# Altium schematic symbol library RF Detector.SchLib: 6 symbols
Pins are listed as number, name and electrical type; pins without a type are passive.

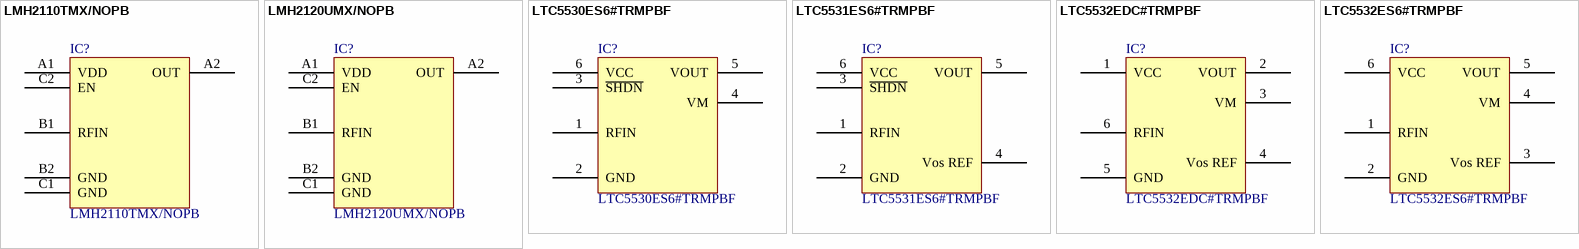
[diagram p0: symbols LMH2110TMX/NOPB to LTC5532ES6#TRMPBF]

## LMH2110TMX/NOPB
designator IC?
IC LOG DETECTOR 8GHZ 45DB 6MSMD; Manufacturer: Texas Instruments; Frequency: 50MHz ~ 8GHz; Input Range: -40dBm ~ 5dBm; Accuracy: 0.5dB; Voltage Supply: 2.7 V ~ 5 V; Part Number: LMH2110TMX/NOPB; PartId: 7867; Supplier 1: Digi-Key; Supplier Part Number 1: 296-41439-2-ND; ComponentLink1Description: Datasheet; ComponentLink1URL: http://www.ti.com/lit/ds/symlink/lmh2110.pdf; ComponentLink2Description: Digi-Key Listing; ComponentLink2URL: http://www.digikey.com/product-detail/en/LMH2110TMX%2FNOPB/296-41439-1-ND/5222781; Price: 0.9; Device Package: 6-WFBGA; Current Supply: -
footprint TI DSBGA-6 1.25x0.85mm
pins: A1 VDD, A2 OUT, B1 RFIN, B2 GND, C1 GND, C2 EN

## LMH2120UMX/NOPB
designator IC?
IC LIN DETECTOR 6GHZ 40BD SMD; Manufacturer: Texas Instruments; Frequency: 50MHz ~ 6GHz; Input Range: -35dBm ~ 5dBm; Accuracy: 0.5dB; Voltage Supply: 2.7 V ~ 5 V; Current Supply: 4.7mA; Part Number: LMH2120UMX/NOPB; PartId: 7896; Supplier 1: Digi-Key; Supplier Part Number 1: LMH2120UMX/NOPB-ND; ComponentLink1Description: Datasheet; ComponentLink1URL: http://www.ti.com/lit/ds/symlink/lmh2120.pdf; ComponentLink2Description: Digi-Key Listing; ComponentLink2URL: http://www.digikey.com/product-detail/en/LMH2120UMX%2FNOPB/LMH2120UMX%2FNOPB-ND/2506819; Price: 0.9; Device Package: 6-XFBGA
footprint TI XFBGA-6 1.2x0.8mm
pins: A1 VDD, A2 OUT, B1 RFIN, B2 GND, C1 GND, C2 EN

## LTC5530ES6#TRMPBF
designator IC?
IC RF PWR DETECTOR PREC TSOT23-6; Manufacturer: Linear Technology; Frequency: 300MHz ~ 7GHz; Input Range: -32dBm ~ 10dBm; Voltage Supply: 2.7 V ~ 6 V; Current Supply: 500uA; Part Number: LTC5530ES6#TRMPBF; PartId: 7898; Supplier 1: Digi-Key; Supplier Part Number 1: LTC5530ES6#TRMPBFTR-ND; ComponentLink1Description: Datasheet; ComponentLink1URL: http://www.linear.com/docs/1185; ComponentLink2Description: Digi-Key Listing; ComponentLink2URL: http://www.digikey.com/product-detail/en/LTC5530ES6%23TRMPBF/LTC5530ES6%23TRMPBFTR-ND/962320; Price: 1.61; Device Package: SOT-23-6 Thin, TSOT-23-6; Accuracy: -
footprint LT TSOT-23-6 S6 RFDET
pins: 1 RFIN, 2 GND, 3 ~{SHDN}, 4 VM, 5 VOUT, 6 VCC

## LTC5531ES6#TRMPBF
designator IC?
IC RF PWR DETECTOR PREC TSOT23-6; Manufacturer: Linear Technology; Frequency: 300MHz ~ 7GHz; Input Range: -32dBm ~ 10dBm; Voltage Supply: 2.7 V ~ 6 V; Current Supply: 500uA; Part Number: LTC5531ES6#TRMPBF; PartId: 7897; Supplier 1: Digi-Key; Supplier Part Number 1: LTC5531ES6#TRMPBFTR-ND; ComponentLink1Description: Datasheet; ComponentLink1URL: http://www.linear.com/docs/1482; ComponentLink2Description: Digi-Key Listing; ComponentLink2URL: http://www.digikey.com/product-detail/en/LTC5531ES6%23TRMPBF/LTC5531ES6%23TRMPBFTR-ND/962304; Price: 1.55; Device Package: SOT-23-6 Thin, TSOT-23-6; Accuracy: -
footprint LT TSOT-23-6 S6 RFDET
pins: 1 RFIN, 2 GND, 3 ~{SHDN}, 4 Vos REF, 5 VOUT, 6 VCC

## LTC5532EDC#TRMPBF
designator IC?
IC RF POWER DETECTOR PREC 6DFN; Manufacturer: Linear Technology; Frequency: 300MHz ~ 7GHz; Input Range: -32dBm ~ 10dBm; Voltage Supply: 2.7 V ~ 6 V; Current Supply: 500uA; Part Number: LTC5532EDC#TRMPBF; PartId: 7900; Supplier 1: Digi-Key; Supplier Part Number 1: LTC5532EDC#TRMPBFTR-ND; ComponentLink1Description: Datasheet; ComponentLink1URL: http://www.linear.com/docs/2277; ComponentLink2Description: Digi-Key Listing; ComponentLink2URL: http://www.digikey.com/product-detail/en/LTC5532EDC%23TRMPBF/LTC5532EDC%23TRMPBFTR-ND/962243; Price: 2.07; Device Package: 6-WFDFN Exposed Pad; Accuracy: -
footprint LT DFN-6 2x2mm DC6 RF
pins: 1 VCC, 2 VOUT, 3 VM, 4 Vos REF, 5 GND, 6 RFIN

## LTC5532ES6#TRMPBF
designator IC?
IC DETECTOR RF GAIN ADJ TSOT23-6; Manufacturer: Linear Technology; Frequency: 300MHz ~ 7GHz; Input Range: -32dBm ~ 10dBm; Voltage Supply: 2.7 V ~ 6 V; Current Supply: 500uA; Part Number: LTC5532ES6#TRMPBF; PartId: 7899; Supplier 1: Digi-Key; Supplier Part Number 1: LTC5532ES6#TRMPBFTR-ND; ComponentLink1Description: Datasheet; ComponentLink1URL: http://www.linear.com/docs/2277; ComponentLink2Description: Digi-Key Listing; ComponentLink2URL: http://www.digikey.com/product-detail/en/LTC5532ES6%23TRMPBF/LTC5532ES6%23TRMPBFTR-ND/1115993; Price: 1.84; Device Package: SOT-23-6 Thin, TSOT-23-6; Accuracy: -
footprint LT TSOT-23-6 S6 RFDET
pins: 1 RFIN, 2 GND, 3 Vos REF, 4 VM, 5 VOUT, 6 VCC